# Altium schematic symbol library 电源管理.SchLib: 37 symbols
Pins are listed as number, name and electrical type; pins without a type are passive.

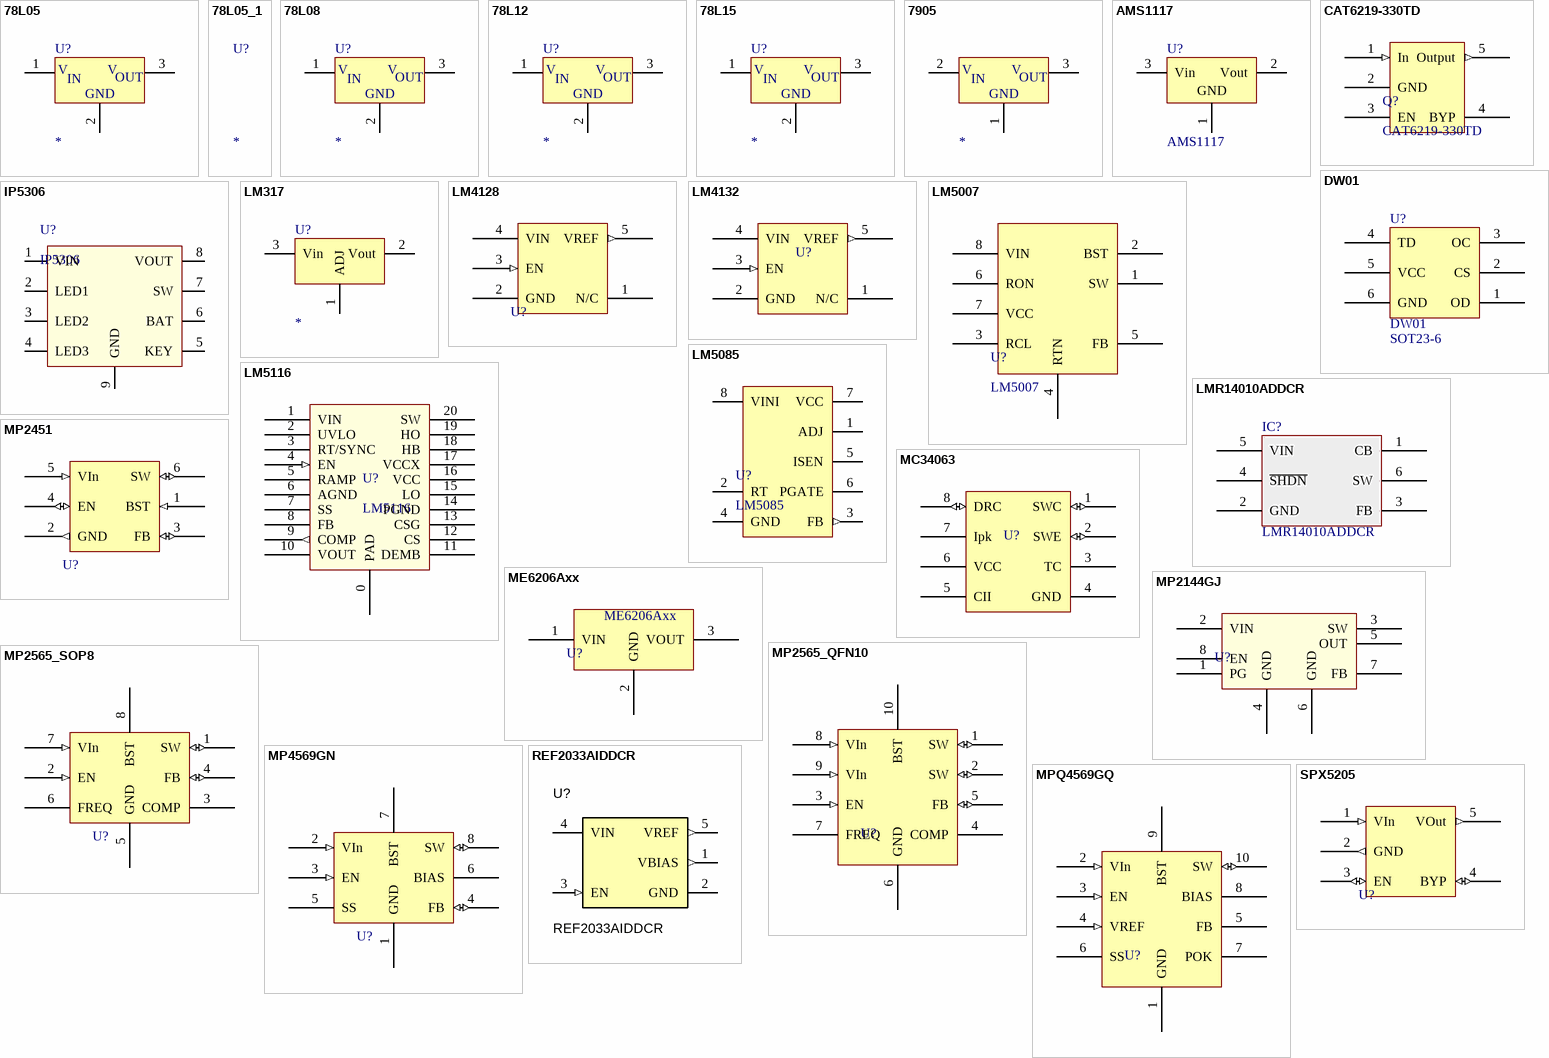
[diagram p0: symbols 78L05 to SPX5205]

## 78L05
designator U?
3-Terminal Positive Voltage Regulator; Value: 78L05
simulation model 78L05 (SUBCKT)
footprint SOT89N (SOT89, 3-Leads, Body 4.5x2.4 mm, Pitch 1.5mm, Lead Span 4.1mm, IPC Medium Density)
pins: 1 VIN, 2 GND, 3 VOUT
text: V; IN; OUT

## 78L05_1
designator U?
3-Terminal Positive Voltage Regulator
simulation model 78L05 (SUBCKT)
footprint SOT89N (SOT89, 3-Leads, Body 4.5x2.4 mm, Pitch 1.5mm, Lead Span 4.1mm, IPC Medium Density)

## 78L08
designator U?
3-Terminal Positive Voltage Regulator
simulation model 78L08 (SUBCKT)
pins: 1 VIN, 2 GND, 3 VOUT
text: V; IN; OUT

## 78L12
designator U?
3-Terminal Positive Voltage Regulator
simulation model 78L12 (SUBCKT)
pins: 1 VIN, 2 GND, 3 VOUT
text: V; IN; OUT

## 78L15
designator U?
3-Terminal Positive Voltage Regulator
simulation model 78L15 (SUBCKT)
pins: 1 VIN, 2 GND, 3 VOUT
text: V; IN; OUT

## 7905
designator ?
pins: 1 GND, 2 VIN, 3 VOUT
text: V; IN; OUT

## AMS1117
designator U?
Voltage Regulator; Auther: JonesLee; Publisher: JonesWorkspace; Value: AMS1117
footprint D2PAK_N (D2-PAK, 4-Leads, Body 8.8x10.4mm, Pitch 2.54mm, Lead Span 15.1mm, IPC Medium Density)
footprint D2PAK_L (D2-PAK, 4-Leads, Body 8.8x10.4mm, Pitch 2.54mm, Lead Span 15.1mm, IPC High Density)
footprint D2PAK_M (D2-PAK, 4-Leads, Body 8.8x10.4mm, Pitch 2.54mm, Lead Span 15.1mm, IPC Low Density)
footprint SOT-223-N (SOT223, 4-Leads, Body 6.5x3.5mm, Pitch 2.3mm, Lead Span 7mm, IPC Medium Density)
footprint SOT-223-M (SOT223, 4-Leads, Body 6.5x3.5mm, Pitch 2.3mm, Lead Span 7mm, IPC Low Density)
footprint SOT-223-L (SOT223, 4-Leads, Body 6.5x3.5mm, Pitch 2.3mm, Lead Span 7mm, IPC High Density)
footprint SOT-223
pins: 1 GND, 2 Vout, 3 Vin

## CAT6219-330TD
designator Q?
Value: CAT6219
footprint SOT23-5
pins: 1 In (in), 2 GND (power), 3 EN, 4 BYP, 5 Output (out)

## DW01
designator U?  Footprint: SOT23-6
BAT_PROTECT_IC; Value: DW01
footprint SOT23-6L (3x1.6x1.1mm(长宽高))
pins: 1 OD, 2 CS, 3 OC, 4 TD, 5 VCC, 6 GND

## IP5306
designator U?
移动电源 SOC
footprint ESOP-8_L4.9-W3.9-P1.27-LS6.0-BL-EP
pins: 1 VIN, 2 LED1, 3 LED2, 4 LED3, 5 KEY, 6 BAT, 7 SW, 8 VOUT, 9 GND

## LM317
designator U?
3-Terminal Adjustable Positive Voltage Regulator
simulation model LM317 (SUBCKT)
pins: 1 ADJ, 2 Vout, 3 Vin

## LM4128
designator U?  (value not drawn)
Comany: Key; Publisher: JonesLee; Pubsilsh: 11-Mar-2014; Value: LM4128
footprint SOT-23-5
pins: 1 N/C, 2 GND (power), 3 EN (in), 4 VIN (power), 5 VREF (out)

## LM4132
designator U?  (value not drawn)
Comany: Key; Publisher: JonesLee; Pubsilsh: 11-Mar-2014; Value: LM4132
footprint SOT-23-5
pins: 1 N/C, 2 GND (power), 3 EN (in), 4 VIN (power), 5 VREF (out)

## LM5007
designator U?
Value: LM5007
footprint VSSOP-8
pins: 1 SW, 2 BST, 3 RCL, 4 RTN, 5 FB, 6 RON, 7 VCC, 8 VIN

## LM5085
designator U?
LM5085,INPUT 4.5V-75V; Auther: JonesLee; Publish: 29-Dec-2016; Value: LM5085
footprint SOP8_M (8-Pin Small Outline Integrated Circuit 1.27 mm Pitch, IPC Low Density)
footprint LLP-8
pins: 1 ADJ, 2 RT (power), 3 FB (out), 4 GND (power), 5 ISEN (power), 6 PGATE, 7 VCC (power), 8 VINI (power)

## LM5116
designator U?
Value: LM5116
footprint LM5116-HTSSOP-20
pins: 0 PAD, 1 VIN, 2 UVLO, 3 RT/SYNC, 4 EN (in), 5 RAMP, 6 AGND, 7 SS, 8 FB, 9 COMP (out), 10 VOUT, 11 DEMB, 12 CS, 13 CSG, 14 PGND, 15 LO, 16 VCC, 17 VCCX, 18 HB, 19 HO, 20 SW

## LMR14010ADDCR
designator IC?
footprint TSOT-23-6D
pins: 1 CB, 2 GND, 3 FB, 4 ~{SHDN}, 5 VIN, 6 SW

## MC34063
designator U?  (value not drawn)
Value: MC34063; Publisher: JonesLee; Publish: 1-15-2018
footprint SOP8_N (8-Pin Small Outline Integrated Circuit 1.27 mm Pitch, IPC Medium Density)
pins: 1 SWC (io), 2 SWE (io), 3 TC, 4 GND, 5 CII, 6 VCC, 7 Ipk, 8 DRC (io)

## ME6206Axx
designator U?  (value not drawn)
Value: ME6206A
footprint SOT-23B_N (SOT23, 3-Leads, Body 2.9x1.3mm, Pitch 0.95mm, Lead Span 2.4mm, IPC Medium Density)
pins: 1 VIN, 2 GND, 3 VOUT

## MP2144GJ
designator U?  (value not drawn)
Value: MP2144GJ
footprint SOT-248
pins: 1 PG, 2 VIN, 3 SW, 4 GND, 5 OUT, 6 GND, 7 FB, 8 EN

## MP2451
designator U?  (value not drawn)
Comany: Key; Value: MP2451; Publisher: JonesLee; Pubsilsh: 11-Mar-2014
footprint SOT23-6_L (SOT23, 6-Leads, Body 2.9x1.6mm, Pitch 0.95mm, Lead Span 2.7mm, IPC High Density)
pins: 1 BST (in), 2 GND (out), 3 FB (io), 4 EN (io), 5 VIn (in), 6 SW (io)

## MP2565_QFN10
designator U?  (value not drawn)
Comany: Key; Publisher: JonesLee; Pubsilsh: 11-Mar-2014; Value: MP2565_QFN10
footprint QFN10
pins: 1 SW (io), 2 SW (io), 3 EN (in), 4 COMP, 5 FB (io), 6 GND, 7 FREQ, 8 VIn (in), 9 VIn (in), 10 BST

## MP2565_SOP8
designator U?  (value not drawn)
Comany: Key; Value: MP2564_SOP8; Publisher: JonesLee; Pubsilsh: 11-Mar-2014
footprint SOP-8
pins: 1 SW (io), 2 EN (in), 3 COMP, 4 FB (io), 5 GND, 6 FREQ, 7 VIn (in), 8 BST

## MP4569GN
designator U?  (value not drawn)
Comany: Key; Publisher: JonesLee; Pubsilsh: 11-Mar-2014; Value: MP4569GN
footprint SOP-8
pins: 1 GND, 2 VIn (in), 3 EN (in), 4 FB (io), 5 SS, 6 BIAS, 7 BST, 8 SW (io)

## MPQ4569GQ
designator U?  (value not drawn)
Comany: Key; Publisher: JonesLee; Pubsilsh: 11-Mar-2014; Value: MPQ4569GQ
footprint QFN10
pins: 1 GND (power), 2 VIn (in), 3 EN (in), 4 VREF (in), 5 FB, 6 SS, 7 POK, 8 BIAS, 9 BST, 10 SW (io)

## REF2033AIDDCR
designator U?
Low-Drift, Low-Power, Dual-Output, VREF and VREF / 2 Voltage References, DDC0005A; Alternate PartNumber: REF2033AIDDCT; Manufacturer: Texas Instruments; SymbolCreator: a0799628; CompType: IC; U/M: EA; SymbolVersion: 2014-05-02; PartNumber: REF2033AIDDCR; PackageReference: DDC0005A; MountType: SMT; ComponentLink1Description: Datasheet Link; ComponentLink1URL: http://www.ti.com/lit/ds/symlink/ref2033.pdf; RoHS: Y; Publisher: Texas Instruments; LatestRevisionDate: 2016-03-11; Alternate Manufacturer: Texas Instruments; Value: REF2033AIDDCR
footprint DDC0005A_N
footprint SOT-23-5
pins: 1 VBIAS (out), 2 GND (power), 3 EN (in), 4 VIN (power), 5 VREF (out)

## SPX5205
designator U?  (value not drawn)
Comany: Key; Value: SPX5205; Publisher: JonesLee; Pubsilsh: 11-Mar-2014
footprint SOT-23-5
pins: 1 VIn (in), 2 GND (out), 3 EN (io), 4 BYP (io), 5 VOut (out)

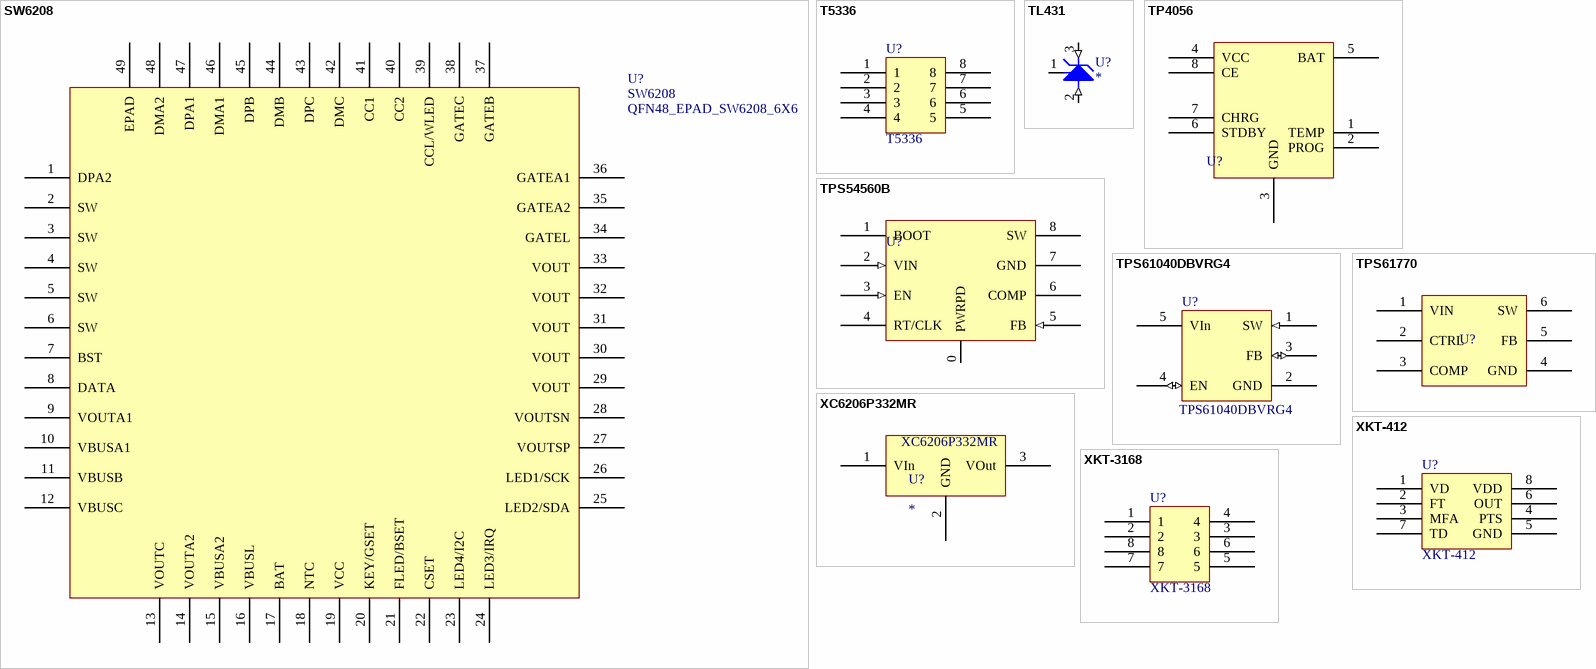
[diagram p1: symbols SW6208 to XKT-3168]

## SW6208
designator U?  Footprint: QFN48_EPAD_SW6208_6X6
IC
footprint QFN48-6206-6*6
pins: 1 DPA2, 2 SW, 3 SW, 4 SW, 5 SW, 6 SW, 7 BST, 8 DATA, 9 VOUTA1, 10 VBUSA1, 11 VBUSB, 12 VBUSC, 13 VOUTC, 14 VOUTA2, 15 VBUSA2, 16 VBUSL, 17 BAT, 18 NTC, 19 VCC, 20 KEY/GSET, 21 FLED/BSET, 22 CSET, 23 LED4/I2C, 24 LED3/IRQ, 25 LED2/SDA, 26 LED1/SCK, 27 VOUTSP, 28 VOUTSN, 29 VOUT, 30 VOUT, 31 VOUT, 32 VOUT, 33 VOUT, 34 GATEL, 35 GATEA2, 36 GATEA1, 37 GATEB, 38 GATEC, 39 CCL/WLED, 40 CC2, 41 CC1, 42 DMC, 43 DPC, 44 DMB, 45 DPB, 46 DMA1, 47 DPA1, 48 DMA2, 49 EPAD

## T5336
designator U?
footprint SOP8_M (8-Pin Small Outline Integrated Circuit 1.27 mm Pitch, IPC Low Density)
pins: 1, 2, 3, 4, 5, 6, 7, 8

## TL431
designator U?
Adjustable Precision Shunt Regulator
simulation model TL431 (SUBCKT)
pins: 1 R, 2 A (in), 3 K (in)

## TP4056
designator U?  (value not drawn)
Auther: Jones; Value: TP4056; Publish: 2014-4-6
footprint SOP8_N (8-Pin Small Outline Integrated Circuit 1.27 mm Pitch, IPC Medium Density)
pins: 1 TEMP (power), 2 PROG (power), 3 GND (power), 4 VCC (power), 5 BAT (power), 6 STDBY (power), 7 CHRG (power), 8 CE (power)

## TPS54560B
designator U?  (value not drawn)
Value: TPS54560B; Publisher: JonesLee
footprint SOP8_L (8-Pin Small Outline Integrated Circuit 1.27 mm Pitch, IPC High Density)
footprint TPS54560B-SOP-8
pins: 0 PWRPD, 1 BOOT, 2 VIN (in), 3 EN (in), 4 RT/CLK, 5 FB (in), 6 COMP, 7 GND, 8 SW

## TPS61040DBVRG4
designator U?
Comany: Key; Publisher: JonesLee; Pubsilsh: 11-Mar-2014; Value: TPS61040DBVRG4
footprint SOT23-5
pins: 1 SW (in), 2 GND (power), 3 FB (io), 4 EN (io), 5 VIn (power)

## TPS61770
designator U?  (value not drawn)
Value: TPS61770; Publisher: JonesLee; Publish: 1-15-2018
footprint VSON-6 (QFN, 36-Leads, Body 6x6mm, Pitch 0.5mm, Thermal Pad 4.3x4.3mm, IPC High Density)
pins: 1 VIN, 2 CTRL, 3 COMP, 4 GND, 5 FB, 6 SW

## XC6206P332MR
designator U?
Auther: JonesLee; Publish: 28.Jan.2014; Value: XC620P332MR
footprint SOT23_N (SOT23, 3-Leads, Body 2.9x1.3mm, Pitch 0.95mm, Lead Span 2.3mm - Reverse Pinning, IPC Medium Density); pin to pad 2>3 3>2
pins: 1 VIn, 2 GND, 3 VOut

## XKT-412
designator U?
Wireless charger emitter; Value: XKT-412
footprint SOP8_M (8-Pin Small Outline Integrated Circuit 1.27 mm Pitch, IPC Low Density)
pins: 1 VD, 2 FT, 3 MFA, 4 PTS, 5 GND, 6 OUT, 7 TD, 8 VDD

## XKT-3168
designator U?
WirelessCharger Recesive; Value: XKT-3168
footprint Model Name (Footprint not found)
footprint SOP8_M (8-Pin Small Outline Integrated Circuit 1.27 mm Pitch, IPC Low Density)
pins: 1, 2, 3, 4, 5, 6, 7, 8